# EAGLE library part HEADER-3X8 (library pixhawk2)
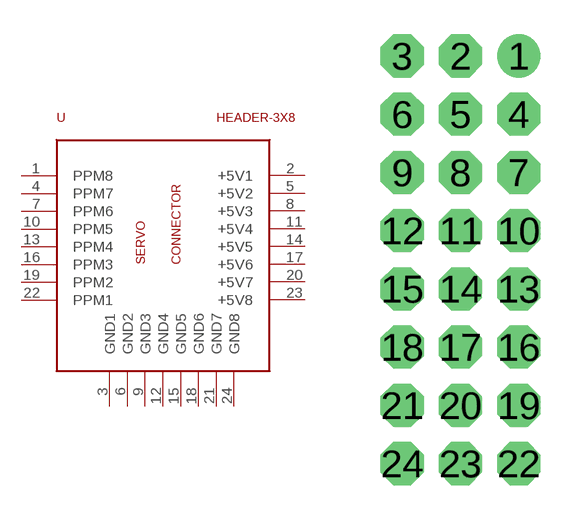
[diagram p19: symbol with the pads of 3X8RA; footprint 3X8RA]

Designator prefix -

## HEADER-3X8SERVO  [3X8RA]
1  PPM8
2  +5V1
3  GND1
4  PPM7
5  +5V2
6  GND2
7  PPM6
8  +5V3
9  GND3
10  PPM5
11  +5V4
12  GND4
13  PPM4
14  +5V5
15  GND5
16  PPM3
17  +5V6
18  GND6
19  PPM2
20  +5V7
21  GND7
22  PPM1
23  +5V8
24  GND8

## Footprint 3X8RA (pad centres in mm)
drill 1.016 pad 1.88 round: 1 3.81,8.89
drill 1.016 pad 1.88 octagon: 2 1.27,8.89; 3 -1.27,8.89; 4 3.81,6.35; 5 1.27,6.35; 6 -1.27,6.35; 7 3.81,3.81; 8 1.27,3.81; 9 -1.27,3.81; 10 3.81,1.27; 11 1.27,1.27; 12 -1.27,1.27; 13 3.81,-1.27; 14 1.27,-1.27; 15 -1.27,-1.27; 16 3.81,-3.81; 17 1.27,-3.81; 18 -1.27,-3.81; 19 3.81,-6.35; 20 1.27,-6.35; 21 -1.27,-6.35; 22 3.81,-8.89; 23 1.27,-8.89; 24 -1.27,-8.89